# EAGLE library part PIN_HEADER_MALE_2X20_40P (library 180118 Library by matsu)
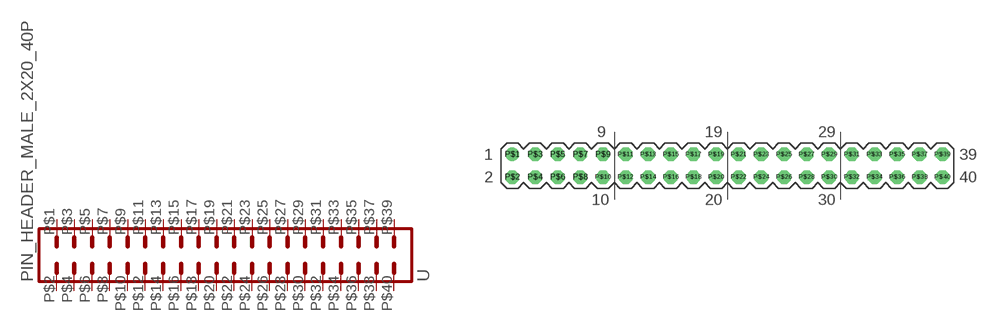
[diagram p4: symbol with the pads of PIN_HEADER_MALE_2X20_40P; footprint PIN_HEADER_MALE_2X20_40P]

Designator prefix -

## PIN_HEADER_MALE_2X20_40P  [PIN_HEADER_MALE_2X20_40P]
P$1  P$1
P$2  P$2
P$3  P$3
P$4  P$4
P$5  P$5
P$6  P$6
P$7  P$7
P$8  P$8
P$9  P$9
P$10  P$10
P$11  P$11
P$12  P$12
P$13  P$13
P$14  P$14
P$15  P$15
P$16  P$16
P$17  P$17
P$18  P$18
P$19  P$19
P$20  P$20
P$21  P$21
P$22  P$22
P$23  P$23
P$24  P$24
P$25  P$25
P$26  P$26
P$27  P$27
P$28  P$28
P$29  P$29
P$30  P$30
P$31  P$31
P$32  P$32
P$33  P$33
P$34  P$34
P$35  P$35
P$36  P$36
P$37  P$37
P$38  P$38
P$39  P$39
P$40  P$40

## Footprint PIN_HEADER_MALE_2X20_40P (pad centres in mm)
drill 1: P$1 -24.13,1.27
drill 1 octagon: P$2 -24.13,-1.27; P$3 -21.59,1.27; P$4 -21.59,-1.27; P$5 -19.05,1.27; P$6 -19.05,-1.27; P$7 -16.51,1.27; P$8 -16.51,-1.27; P$9 -13.97,1.27; P$10 -13.97,-1.27; P$11 -11.43,1.27; P$12 -11.43,-1.27; P$13 -8.89,1.27; P$14 -8.89,-1.27; P$15 -6.35,1.27; P$16 -6.35,-1.27; P$17 -3.81,1.27; P$18 -3.81,-1.27; P$19 -1.27,1.27; P$20 -1.27,-1.27; P$21 1.27,1.27; P$22 1.27,-1.27; P$23 3.81,1.27; P$24 3.81,-1.27; P$25 6.35,1.27; P$26 6.35,-1.27; P$27 8.89,1.27; P$28 8.89,-1.27; P$29 11.43,1.27; P$30 11.43,-1.27; P$31 13.97,1.27; P$32 13.97,-1.27; P$33 16.51,1.27; P$34 16.51,-1.27; P$35 19.05,1.27; P$36 19.05,-1.27; P$37 21.59,1.27; P$38 21.59,-1.27; P$39 24.13,1.27; P$40 24.13,-1.27